# Altium schematic symbol library Diode.SchLib: 3 symbols
Pins are listed as number, name and electrical type; pins without a type are passive.

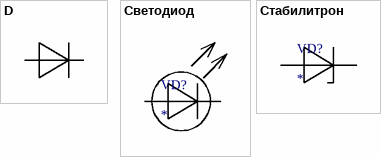
[diagram p0: symbols D to Стабилитрон]

## D
designator D  (value not drawn)
footprint D9A
pins: 1, 2

## Светодиод
designator VD?
pins: 1 "Анод", 2 "Катод"

## Стабилитрон
designator VD?
pins: 1, 2